# EAGLE library part MDBT40 (library Badge)
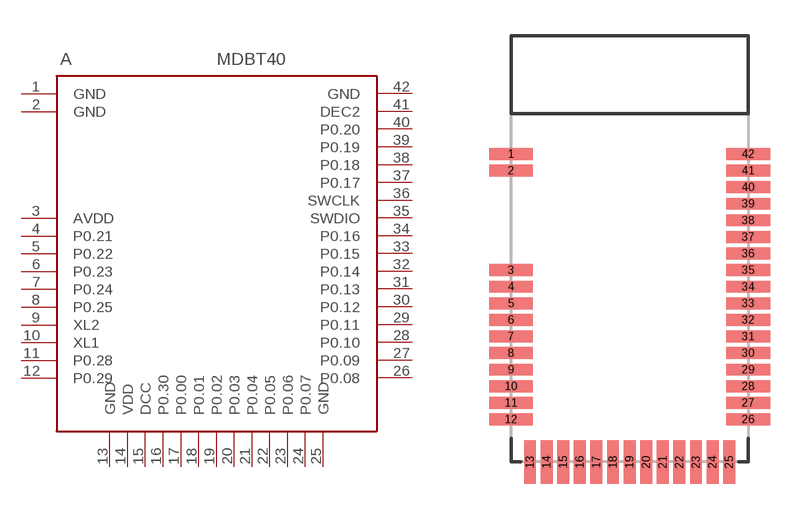
[diagram p0: symbol with the pads of MDBT40; footprint MDBT40]

Designator prefix A

## MDBT40SMD  [MDBT40]
1  GND
2  GND
3  AVDD
4  P0.21
5  P0.22
6  P0.23
7  P0.24
8  P0.25
9  XL2
10  XL1
11  P0.28
12  P0.29
13  GND
14  VDD
15  DCC
16  P0.30
17  P0.00
18  P0.01
19  P0.02
20  P0.03
21  P0.04
22  P0.05
23  P0.06
24  P0.07
25  GND
26  P0.08
27  P0.09
28  P0.10
29  P0.11
30  P0.12
31  P0.13
32  P0.14
33  P0.15
34  P0.16
35  SWDIO
36  SWCLK
37  P0.17
38  P0.18
39  P0.19
40  P0.20
41  DEC2
42  GND

## Footprint MDBT40 (pad centres in mm)
smd 1.85 x 0.5: 1 -5,4; 2 -5,3.3; 3 -5,-0.9; 4 -5,-1.6; 5 -5,-2.3; 6 -5,-3; 7 -5,-3.7; 8 -5,-4.4; 9 -5,-5.1; 10 -5,-5.8; 11 -5,-6.5; 12 -5,-7.2; 26 5,-7.2; 27 5,-6.5; 28 5,-5.8; 29 5,-5.1; 30 5,-4.4; 31 5,-3.7; 32 5,-3; 33 5,-2.3; 34 5,-1.6; 35 5,-0.9; 36 5,-0.2; 37 5,0.5; 38 5,1.2; 39 5,1.9; 40 5,2.6; 41 5,3.3; 42 5,4
smd 0.5 x 1.85: 13 -4.2,-9; 14 -3.5,-9; 15 -2.8,-9; 16 -2.1,-9; 17 -1.4,-9; 18 -0.7,-9; 19 0,-9; 20 0.7,-9; 21 1.4,-9; 22 2.1,-9; 23 2.8,-9; 24 3.5,-9; 25 4.2,-9